# Altium footprint library kernel.PcbLib: 24 footprints (part 1 of 2)
Each footprint in its own frame and in the unit in brackets; x right, y up, seen from the top. Pads: shape width x height; smd on the part's side, far side on the other; paste and mask are expansions set on the pad; w line width, h text height; cw(c..) or ccw(c..) is an arc to the next point about the centre after c.
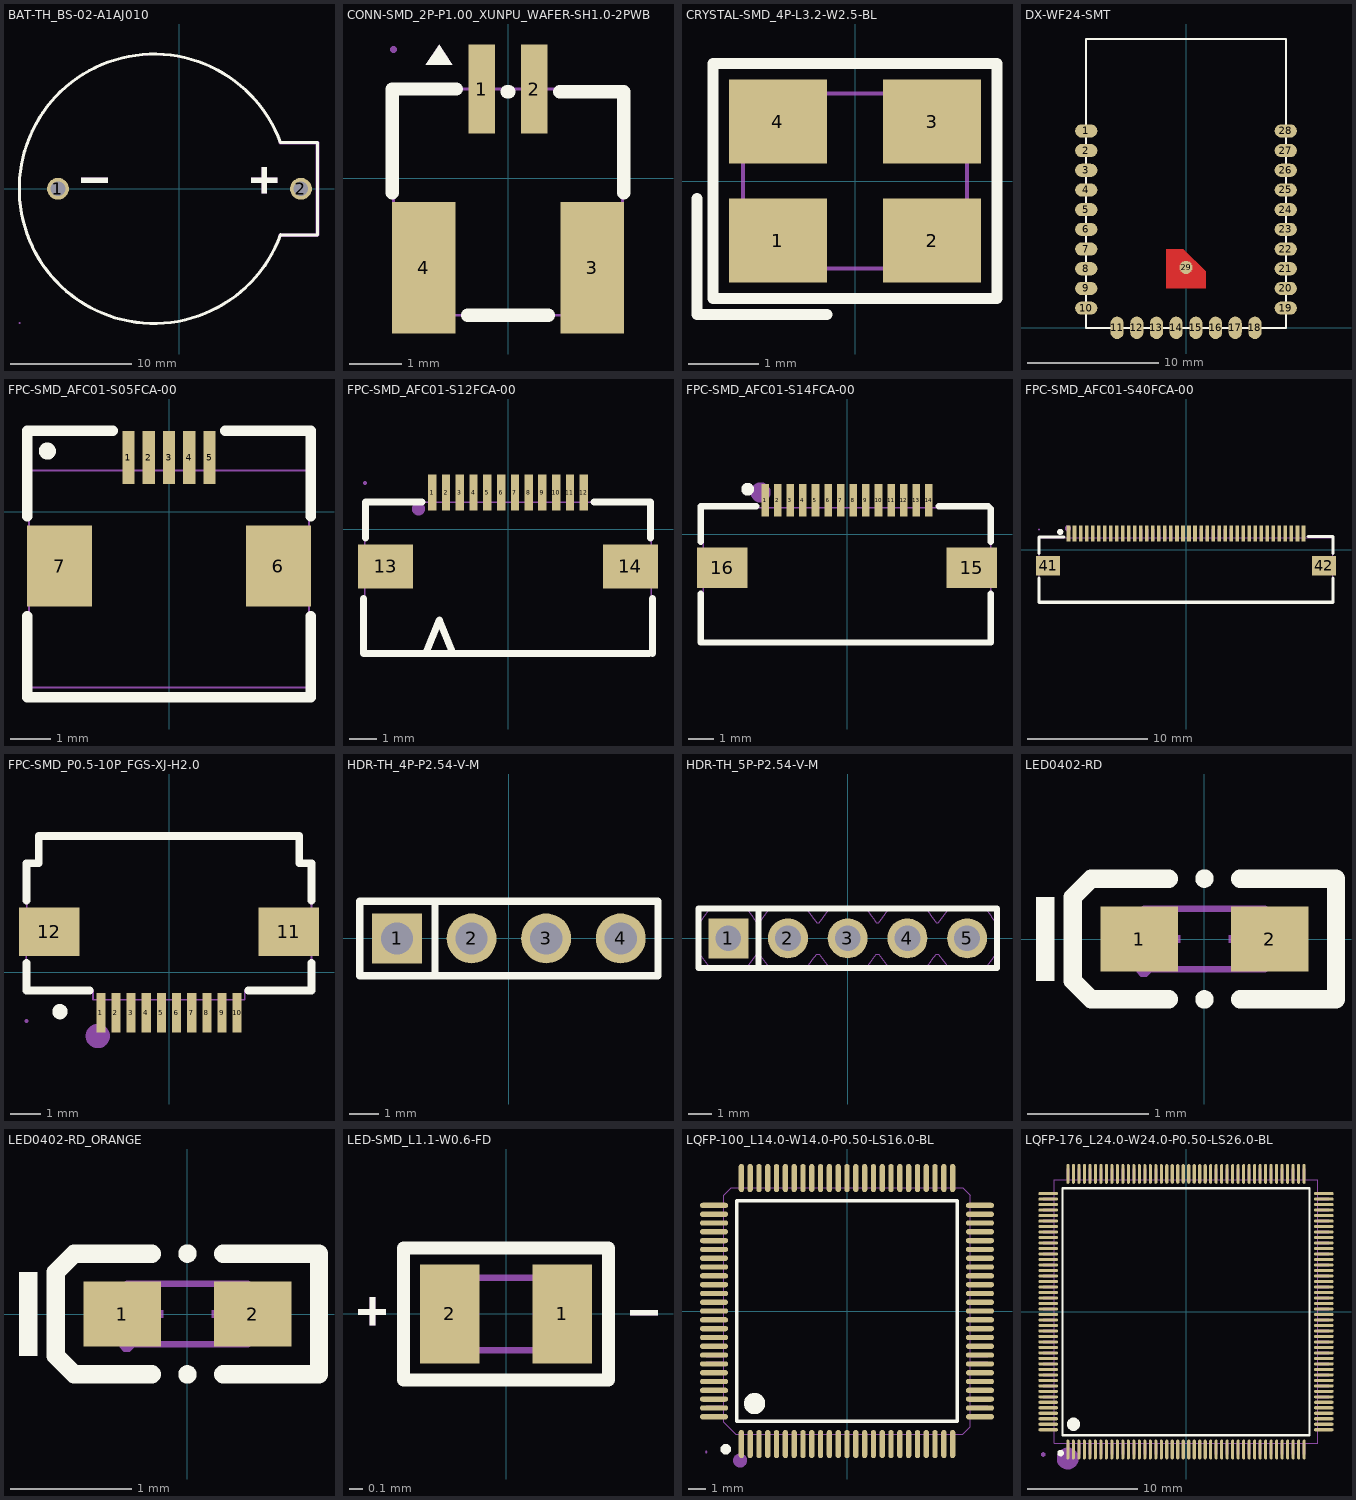
[diagram p0: the footprints below, top view; thin cyan lines are the x and y axes]

## BAT-TH_BS-02-A1AJ010 [mm] "CR2032电池座"
pads (2):
  round 1.8 hole 1.2: 1(-10,0) 2(10,0)
Top Overlay:
  region: -8.069,0.889 -8.069,0.508 -5.91,0.508 -5.91,0.889
  region: 8.06,0.508 8.06,0.889 5.901,0.889 5.901,0.508
  region: 7.171,1.778 6.79,1.778 6.79,-0.381 7.171,-0.381
  lines w0.254: 8.314,-3.81 11.362,-3.81 11.362,3.799 8.318,3.799 ccw(c-2.1,0) 8.325,-3.781
Mechanical 6:
  region: -8.069,0.889 -8.069,0.508 -5.91,0.508 -5.91,0.889
  region: 6.79,-0.381 7.171,-0.381 7.171,1.778 6.79,1.778
  region: 6.79,-0.381 7.171,-0.381 7.171,1.778 6.79,1.778
  region: 5.901,0.889 5.901,0.508 8.06,0.508 8.06,0.889
  region: 8.318,3.926 11.362,3.926 11.387,3.926 11.434,3.907 11.47,3.871 11.489,3.825 11.489,3.799 11.489,-3.81 11.489,-3.835 11.47,-3.882 11.434,-3.918 11.387,-3.937 11.362,-3.937 8.314,-3.937 8.261,-3.937 8.187,-3.863 8.187,-3.757 8.261,-3.683 8.314,-3.683 11.235,-3.683 11.235,3.672 8.318,3.672 8.265,3.672 8.191,3.747 8.191,3.852 8.265,3.926 8.318,3.926
Mechanical 15:
  drawing of 418 lines, arcs and shapes, not listed

## CONN-SMD_2P-P1.00_XUNPU_WAFER-SH1.0-2PWB [mm]
pads (4):
  rect 0.5x1.7 smd paste+0 mask+0.05: 1(-0.5,1.7) 2(0.5,1.7)
  rect 1.2x2.5 smd paste+0 mask+0.05: 3(1.6,-1.7) 4(-1.6,-1.7)
Top Overlay:
  region: -1.31,2.54 -1.564,2.159 -1.056,2.159
  lines w0.254: -2.2,-0.269 -2.2,1.7 -0.98,1.7 ; -0.769,-2.6 0.769,-2.6 ; -0.019,1.651 0.019,1.651 ; 1.019,1.651 0.981,1.651 2.2,1.651 2.2,-0.268 ; 1.981,1.651 2.019,1.651
Mechanical 6:
  region: -1.31,2.54 -1.564,2.159 -1.056,2.159
Mechanical 15:
  region: -1.7,-0.6 -1.5,-0.6 -1.5,-2.6 -1.7,-2.6
  region: 1.5,-0.6 1.7,-0.6 1.7,-2.6 1.5,-2.6
  region: 0.4,2.45 0.6,2.45 0.6,1 0.4,1
  region: -0.6,2.45 -0.4,2.45 -0.4,1 -0.6,1
  region: -2.115,2.45 -2.115,2.425 -2.15,2.39 -2.2,2.39 -2.235,2.425 -2.235,2.45 -2.235,2.475 -2.2,2.51 -2.15,2.51 -2.115,2.475 -2.115,2.45
  lines w0.051: -2.175,-2.6 2.175,-2.6 2.175,1.7 -2.175,1.7 -2.175,-2.6

## CRYSTAL-SMD_4P-L3.2-W2.5-BL [mm] "晶振"
pads (4):
  rect 1.4x1.2 smd: 1(-1.1,-0.85) 2(1.1,-0.85) 3(1.1,0.85) 4(-1.1,0.85)
Top Overlay:
  lines w0.152: -2.257,-0.25 -2.257,-1.907 -0.4,-1.907 ; -2.029,-1.678 2.029,-1.678 2.029,1.679 -2.029,1.679 -2.029,-1.678
Mechanical 6:
  circle w0.254: c-1.27,-0.889 r0.127
Mechanical 15:
  region: -1.5,-0.35 -0.6,-0.35 -0.6,-1.15 -1.5,-1.15
  region: 0.6,-0.35 1.5,-0.35 1.5,-1.15 0.6,-1.15
  region: 0.6,1.15 1.5,1.15 1.5,0.35 0.6,0.35
  region: -1.5,1.15 -0.6,1.15 -0.6,0.35 -1.5,0.35
  region: -1.54,-1.25 -1.54,-1.275 -1.575,-1.31 -1.625,-1.31 -1.66,-1.275 -1.66,-1.25 -1.66,-1.225 -1.625,-1.19 -1.575,-1.19 -1.54,-1.225 -1.54,-1.25
  lines w0.051: -1.6,-1.25 1.6,-1.25 1.6,1.25 -1.6,1.25 -1.6,-1.25

## DX-WF24-SMT [mm]
pads (29):
  oval 1.7x1 smd: 1(-7.6,15) 2(-7.6,13.5) 3(-7.6,12) 4(-7.6,10.5) 5(-7.6,9) 6(-7.6,7.5) 7(-7.6,6) 8(-7.6,4.5) 9(-7.6,3) 10(-7.6,1.5) 19(7.6,1.5) 20(7.6,3) 21(7.6,4.5) 22(7.6,6) 23(7.6,7.5) 24(7.6,9) 25(7.6,10.5) 26(7.6,12) 27(7.6,13.5) 28(7.6,15)
  oval 1x1.7 smd: 11(-5.25,0) 12(-3.75,0) 13(-2.25,0) 14(-0.75,0) 15(0.75,0) 16(2.25,0) 17(3.75,0) 18(5.25,0)
  round 1 smd: 29(0,4.6)
Top Layer:
  region: -1.5,6 -0.2,6 1.5,4.3 1.5,3 -1.5,3
Top Overlay:
  lines w0.15: -7.6,0 -7.6,22 7.6,22 7.6,0 -7.6,0
Top Paste:
  region: -1.5,6 -0.2,6 1.5,4.3 1.5,3 -1.5,3
Top Solder:
  region: -1.5,6 -0.2,6 1.5,4.3 1.5,3 -1.5,3

## FPC-SMD_AFC01-S05FCA-00 [mm]
pads (7):
  rect 0.3x1.3 smd: 1(-1,1.34) 2(-0.5,1.34) 3(0,1.34) 4(0.5,1.34) 5(1,1.34)
  rect 1.6x2 smd: 6(2.7,-1.34) 7(-2.7,-1.34)
Top Overlay:
  circle w0.254: c-3,1.5 r0.083
  lines w0.254: -3.5,-2.571 -3.5,-4 -3.5,-4.572 3.5,-4.572 3.5,-4 3.5,-2.571 ; -3.5,-0.109 -3.5,2 -1.381,2 ; 1.381,2 3.5,2 3.5,-0.109
Mechanical 15:
  region: 2.2,-0.59 3.2,-0.59 3.2,-2.09 2.2,-2.09
  region: -3.2,-0.59 -2.2,-0.59 -2.2,-2.09 -3.2,-2.09
  region: -1.1,1.715 -0.9,1.715 -0.9,0.965 -1.1,0.965
  region: -0.6,1.715 -0.4,1.715 -0.4,0.965 -0.6,0.965
  region: -0.1,1.715 0.1,1.715 0.1,0.965 -0.1,0.965
  region: 0.4,1.715 0.6,1.715 0.6,0.965 0.4,0.965
  region: 0.9,1.715 1.1,1.715 1.1,0.965 0.9,0.965
  region: -3.39,1.715 -3.39,1.69 -3.425,1.655 -3.475,1.655 -3.51,1.69 -3.51,1.715 -3.51,1.74 -3.475,1.775 -3.425,1.775 -3.39,1.74 -3.39,1.715
  lines w0.051: -3.45,-4.335 -3.45,1.015 3.45,1.015 3.45,-4.335 -3.45,-4.335

## FPC-SMD_AFC01-S12FCA-00 [mm]
pads (14):
  rect 0.3x1.3 smd: 1(-2.75,1.34) 2(-2.251,1.34) 3(-1.751,1.34) 4(-1.25,1.34) 5(-0.75,1.34) 6(-0.25,1.34) 7(0.251,1.34) 8(0.75,1.34) 9(1.249,1.34) 10(1.749,1.34) 11(2.25,1.34) 12(2.75,1.34)
  rect 2x1.6 smd: 13(-4.45,-1.34) 14(4.45,-1.34)
Top Overlay:
  lines w0.254: -5.25,-2.5 -5.25,-4.5 5.13,-4.5 ; -5.18,-0.309 -5.18,0.76 ; -5.18,-0.079 -5.18,0.99 -3.132,0.99 ; -2.99,-4.5 -2.49,-3.29 -2,-4.49 ; 3.131,0.99 5.18,0.99 5.18,-0.079 ; 5.18,-0.309 5.18,0.76 ; 5.25,-4.5 5.25,-2.5
Mechanical 6:
  circle w0.24: c-3.25,0.75 r0.12
Mechanical 15:
  region: -5.14,1.69 -5.14,1.665 -5.175,1.63 -5.225,1.63 -5.26,1.665 -5.26,1.69 -5.26,1.715 -5.225,1.75 -5.175,1.75 -5.14,1.715 -5.14,1.69
  region: -5.2,-0.84 -3.7,-0.84 -3.7,-1.84 -5.2,-1.84
  region: 5.2,-1.84 3.7,-1.84 3.7,-0.84 5.2,-0.84
  region: -2.85,0.98 -2.85,1 -2.65,1 -2.65,0.98
  region: -2.85,0.99 -2.85,1.69 -2.65,1.69 -2.65,0.99
  region: -2.351,0.98 -2.351,1 -2.151,1 -2.151,0.98
  region: -2.351,0.99 -2.351,1.69 -2.151,1.69 -2.151,0.99
  region: -1.851,0.98 -1.851,1 -1.651,1 -1.651,0.98
  region: -1.851,0.99 -1.851,1.69 -1.651,1.69 -1.651,0.99
  region: -1.35,0.98 -1.35,1 -1.15,1 -1.15,0.98
  region: -1.35,0.99 -1.35,1.69 -1.15,1.69 -1.15,0.99
  region: -0.85,0.98 -0.85,1 -0.65,1 -0.65,0.98
  region: -0.85,0.99 -0.85,1.69 -0.65,1.69 -0.65,0.99
  region: -0.35,0.98 -0.35,1 -0.15,1 -0.15,0.98
  region: -0.35,0.99 -0.35,1.69 -0.15,1.69 -0.15,0.99
  region: 0.151,0.98 0.151,1 0.351,1 0.351,0.98
  region: 0.151,0.99 0.151,1.69 0.351,1.69 0.351,0.99
  region: 0.65,0.98 0.65,1 0.85,1 0.85,0.98
  region: 0.65,0.99 0.65,1.69 0.85,1.69 0.85,0.99
  region: 1.149,0.98 1.149,1 1.349,1 1.349,0.98
  region: 1.149,0.99 1.149,1.69 1.349,1.69 1.349,0.99
  region: 1.649,0.98 1.649,1 1.849,1 1.849,0.98
  region: 1.649,0.99 1.649,1.69 1.849,1.69 1.849,0.99
  region: 2.15,0.98 2.15,1 2.35,1 2.35,0.98
  region: 2.15,0.99 2.15,1.69 2.35,1.69 2.35,0.99
  region: 2.65,0.98 2.65,1 2.85,1 2.85,0.98
  region: 2.65,0.99 2.65,1.69 2.85,1.69 2.85,0.99
  lines w0.051: -5.2,-4.41 -5.2,0.99 5.2,0.99 5.2,-4.41 -5.2,-4.41

## FPC-SMD_AFC01-S14FCA-00 [mm]
pads (16):
  rect 0.3x1.3 smd: 1(-3.25,1.34) 2(-2.75,1.339) 3(-2.25,1.34) 4(-1.75,1.34) 5(-1.25,1.34) 6(-0.75,1.34) 7(-0.25,1.34) 8(0.25,1.34) 9(0.75,1.34) 10(1.25,1.34) 11(1.75,1.34) 12(2.25,1.34) 13(2.75,1.34) 14(3.25,1.34)
  rect 2x1.6 smd: 15(4.948,-1.34) 16(-4.948,-1.34)
Top Overlay:
  circle w0.254: c-3.937,1.778 r0.127
  lines w0.254: -5.8,-2.371 -5.8,-4.3 5.7,-4.3 5.7,-2.371 ; -5.8,-0.309 -5.8,1.1 -3.6,1.1 ; 3.631,1.1 5.6,1.1 5.7,1 5.7,-0.309
Mechanical 6:
  circle w0.4: c-3.429,1.651 r0.2
Mechanical 15:
  region: 3.15,0.95 3.35,0.95 3.35,1.73 3.15,1.73
  region: 2.65,0.95 2.85,0.95 2.85,1.73 2.65,1.73
  region: 2.15,0.95 2.35,0.95 2.35,1.73 2.15,1.73
  region: 1.65,0.95 1.85,0.95 1.85,1.73 1.65,1.73
  region: 1.15,0.95 1.35,0.95 1.35,1.73 1.15,1.73
  region: 0.65,0.95 0.85,0.95 0.85,1.73 0.65,1.73
  region: 0.15,0.95 0.35,0.95 0.35,1.73 0.15,1.73
  region: -0.35,0.95 -0.15,0.95 -0.15,1.73 -0.35,1.73
  region: -0.85,0.95 -0.65,0.95 -0.65,1.73 -0.85,1.73
  region: -1.35,0.95 -1.15,0.95 -1.15,1.73 -1.35,1.73
  region: -1.85,0.95 -1.65,0.95 -1.65,1.73 -1.85,1.73
  region: -2.35,0.95 -2.15,0.95 -2.15,1.73 -2.35,1.73
  region: -2.85,0.948 -2.65,0.948 -2.65,1.728 -2.85,1.728
  region: -3.35,0.95 -3.15,0.95 -3.15,1.73 -3.35,1.73
  region: 4.196,-0.84 4.196,-1.84 5.696,-1.84 5.696,-0.84
  region: -5.7,-0.84 -5.7,-1.84 -4.2,-1.84 -4.2,-0.84
  region: -5.64,-4.301 -5.64,-4.326 -5.675,-4.361 -5.725,-4.361 -5.76,-4.326 -5.76,-4.301 -5.76,-4.276 -5.725,-4.241 -5.675,-4.241 -5.64,-4.276 -5.64,-4.301
  lines w0.051: -5.702,-4.301 5.698,-4.301 5.698,1.049 -5.702,1.049 -5.702,-4.301

## FPC-SMD_AFC01-S40FCA-00 [mm]
pads (42):
  rect 0.3x1.3 smd: 1(-9.75,1.34) 2(-9.25,1.338) 3(-8.75,1.34) 4(-8.25,1.34) 5(-7.75,1.34) 6(-7.25,1.34) 7(-6.75,1.34) 8(-6.25,1.34) 9(-5.75,1.34) 10(-5.25,1.34) 11(-4.75,1.34) 12(-4.25,1.34) 13(-3.75,1.34) 14(-3.25,1.34) 15(-2.75,1.34) 16(-2.25,1.34) 17(-1.75,1.34) 18(-1.25,1.34) 19(-0.75,1.34) 20(-0.25,1.34) 21(0.25,1.34) 22(0.75,1.34) 23(1.25,1.34) 24(1.75,1.34) 25(2.25,1.34) 26(2.75,1.34) 27(3.25,1.34) 28(3.75,1.34) 29(4.25,1.34) 30(4.75,1.34) 31(5.25,1.34) 32(5.75,1.34) 33(6.25,1.34) 34(6.75,1.34) 35(7.25,1.34) 36(7.75,1.34) 37(8.25,1.34) 38(8.75,1.34) 39(9.25,1.34) 40(9.75,1.34)
  rect 2x1.6 smd: 41(-11.45,-1.34) 42(11.45,-1.34)
Top Overlay:
  circle w0.254: c-10.437,1.478 r0.127
  lines w0.254: -12.207,-2.371 -12.207,-2.671 -12.207,-4.363 12.207,-4.363 12.207,-2.671 12.207,-2.371 ; -12.207,-0.309 -12.207,1.04 ; -12.198,1.04 -10.131,1.04 ; 10.131,1.097 12.207,1.097 12.207,-0.309
Mechanical 6:
  circle w0.254: c-9.799,1.765 r0.127
Mechanical 15:
  drawing of 47 lines, arcs and shapes, not listed

## FPC-SMD_P0.5-10P_FGS-XJ-H2.0 [mm]
pads (12):
  rect 0.3x1.3 smd: 1(-2.25,-1.338) 2(-1.75,-1.338) 3(-1.25,-1.34) 4(-0.75,-1.338) 5(-0.25,-1.34) 6(0.25,-1.338) 7(0.75,-1.338) 8(1.25,-1.338) 9(1.75,-1.338) 10(2.25,-1.34)
  rect 2x1.6 smd: 11(3.95,1.34) 12(-3.95,1.34)
Top Overlay:
  circle w0.3: c-3.6,-1.3 r0.1
  lines w0.254: -4.7,0.309 -4.7,-0.6 -2.615,-0.6 ; -4.7,2.371 -4.7,3.6 -4.3,3.6 -4.3,4.5 4.3,4.5 4.3,3.6 4.7,3.6 4.7,2.371 ; 2.613,-0.6 4.7,-0.6 4.7,0.309
Mechanical 6:
  circle w0.4: c-2.349,-2.106 r0.2
Mechanical 15:
  region: 3.2,0.94 3.2,1.94 4.7,1.94 4.7,0.94
  region: -4.7,0.94 -4.7,1.94 -3.2,1.94 -3.2,0.94
  region: -2.35,-0.852 -2.15,-0.852 -2.15,-1.602 -2.35,-1.602
  region: -1.852,-0.852 -1.652,-0.852 -1.652,-1.602 -1.852,-1.602
  region: -1.35,-0.852 -1.15,-0.852 -1.15,-1.602 -1.35,-1.602
  region: -0.852,-0.852 -0.652,-0.852 -0.652,-1.602 -0.852,-1.602
  region: -0.35,-0.852 -0.15,-0.852 -0.15,-1.602 -0.35,-1.602
  region: 0.148,-0.852 0.348,-0.852 0.348,-1.602 0.148,-1.602
  region: 0.648,-0.852 0.848,-0.852 0.848,-1.602 0.648,-1.602
  region: 1.148,-0.852 1.348,-0.852 1.348,-1.602 1.148,-1.602
  region: 1.648,-0.852 1.848,-0.852 1.848,-1.602 1.648,-1.602
  region: 2.15,-0.852 2.35,-0.852 2.35,-1.602 2.15,-1.602
  region: -4.645,-1.602 -4.645,-1.627 -4.68,-1.662 -4.73,-1.662 -4.765,-1.627 -4.765,-1.602 -4.765,-1.577 -4.73,-1.542 -4.68,-1.542 -4.645,-1.577 -4.645,-1.602
  lines w0.051: -4.705,-0.596 -4.705,-0.197 -4.695,3.561 -4.302,3.561 -4.302,4.503 4.307,4.503 4.307,3.558 4.703,3.558 4.703,-0.601 2.506,-0.601 2.506,-0.902 -2.508,-0.902 -2.508,-0.596 -4.705,-0.596

## HDR-TH_4P-P2.54-V-M [mm]
pads (4):
  rect 1.7x1.7 hole 1.1: 1(-3.81,0)
  round 1.7 hole 1.1: 2(-1.27,0) 3(1.27,0) 4(3.81,0)
Top Overlay:
  lines w0.254: -2.516,-1.27 -2.516,1.27 ; -2.516,1.27 -5.08,1.27 -5.08,-1.27 5.08,-1.27 5.08,1.27 -2.516,1.27
Mechanical 15:
  region: 3.49,0.32 4.13,0.32 4.13,-0.32 3.49,-0.32
  region: 0.95,0.32 1.59,0.32 1.59,-0.32 0.95,-0.32
  region: -1.59,0.32 -0.95,0.32 -0.95,-0.32 -1.59,-0.32
  region: -4.13,0.32 -3.49,0.32 -3.49,-0.32 -4.13,-0.32
  region: -5.02,-1.25 -5.02,-1.275 -5.055,-1.31 -5.105,-1.31 -5.14,-1.275 -5.14,-1.25 -5.14,-1.225 -5.105,-1.19 -5.055,-1.19 -5.02,-1.225 -5.02,-1.25
  lines w0.051: -5.08,-1.25 5.08,-1.25 5.08,1.25 -5.08,1.25 -5.08,-1.25

## HDR-TH_5P-P2.54-V-M [mm]
pads (5):
  rect 1.7x1.7 hole 1.1 paste+0 mask+0.051: 1(-5.08,0)
  round 1.7 hole 1.1 paste+0 mask+0.051: 2(-2.54,0) 3(0,0) 4(2.54,0) 5(5.08,0)
Top Overlay:
  lines w0.254: -3.786,-1.27 -3.786,1.27 ; -6.35,-1.27 6.35,-1.27 6.35,1.27 -6.35,1.27 -6.35,-1.27
Mechanical 15:
  region: -6.29,-1.271 -6.29,-1.246 -6.325,-1.211 -6.375,-1.211 -6.41,-1.246 -6.41,-1.271 -6.41,-1.296 -6.375,-1.331 -6.325,-1.331 -6.29,-1.296 -6.29,-1.271
  region: 4.76,0.32 5.4,0.32 5.4,-0.32 4.76,-0.32
  region: 2.22,0.32 2.86,0.32 2.86,-0.32 2.22,-0.32
  region: -0.32,0.32 0.32,0.32 0.32,-0.32 -0.32,-0.32
  region: -2.86,0.32 -2.22,0.32 -2.22,-0.32 -2.86,-0.32
  region: -5.4,0.32 -4.76,0.32 -4.76,-0.32 -5.4,-0.32
  lines w0.051: -6.35,-0.67 -6.35,0.67 -6.299,0.67 -6.028,1.032 -5.85,1.27 -4.31,1.27 -4.149,1.059 -4.048,0.925 -4.017,0.884 -3.86,0.67 -3.76,0.67 -3.31,1.27 -1.77,1.27 -1.631,1.088 -1.546,0.976 -1.459,0.859 -1.436,0.827 -1.417,0.801 -1.32,0.67 -1.22,0.67 -0.77,1.27 0.77,1.27 0.867,1.143 1.01,0.955 1.108,0.822 1.136,0.783 1.22,0.67 1.32,0.67 1.77,1.27 3.31,1.27 3.458,1.076 3.533,0.979 3.76,0.67 3.86,0.67 4.311,1.27 5.85,1.27 6.079,0.97 6.112,0.925 6.3,0.67 6.35,0.67 6.35,-0.67 6.3,-0.67 6.075,-0.976 5.85,-1.27 4.31,-1.27 3.86,-0.67 3.759,-0.67 3.581,-0.913 3.545,-0.963 3.51,-1.009 3.31,-1.271 1.77,-1.27 1.32,-0.67 1.22,-0.67 1.02,-0.942 0.992,-0.98 0.77,-1.27 -0.77,-1.27 -1.22,-0.67 -1.32,-0.67 -1.503,-0.919 -1.542,-0.972 -1.77,-1.27 -3.31,-1.27 -3.76,-0.67 -3.86,-0.67 -4.077,-0.965 -4.31,-1.27 -5.85,-1.27 -6.3,-0.67 -6.35,-0.67 -6.35,-0.67 ; -6.35,-0.67 -6.35,-0.67

## LED0402-RD [mm] "LED红"
pads (2):
  rect 0.636x0.54 smd paste-100 mask+0.051: 1(-0.538,0) 2(0.538,0)
Top Overlay:
  circle w0.076: c0,-0.499 r0.038
  circle w0.076: c0,0.499 r0.038
  region: -1.237,-0.346 -1.237,0.346 -1.39,0.346 -1.39,-0.346
  lines w0.152: -0.296,-0.499 -0.933,-0.499 -1.085,-0.346 -1.085,0.346 -0.933,0.499 -0.296,0.499 ; 0.296,-0.499 1.085,-0.499 1.085,0.499 0.296,0.499
Top Paste:
  region: 0.198,-0.23 0.198,0.23 0.238,0.27 0.816,0.27 0.856,0.23 0.856,-0.23 0.816,-0.27 0.238,-0.27
  region: -0.198,-0.23 -0.198,0.23 -0.238,0.27 -0.816,0.27 -0.856,0.23 -0.856,-0.23 -0.816,-0.27 -0.238,-0.27
Mechanical 6:
  region: -0.44,-0.03 -0.44,0.03 -0.2,0.03 -0.2,-0.03
  region: 0.44,-0.03 0.44,0.03 0.2,0.03 0.2,-0.03
  region: 0.35,-0.2 0.35,0.2 0.29,0.2 0.29,-0.2
Mechanical 15:
  region: -0.44,-0.25 -0.44,-0.275 -0.475,-0.31 -0.525,-0.31 -0.56,-0.275 -0.56,-0.25 -0.56,-0.225 -0.525,-0.19 -0.475,-0.19 -0.44,-0.225 -0.44,-0.25
  region: -0.5,-0.25 -0.5,0.25 -0.3,0.25 -0.3,-0.25
  region: 0.5,-0.25 0.5,0.25 0.3,0.25 0.3,-0.25
  lines w0.051: -0.5,-0.25 -0.5,0.25 0.5,0.25 0.5,-0.25 -0.5,-0.25

## LED0402-RD_ORANGE [mm] "LED橙色"
pads (2):
  rect 0.636x0.54 smd paste-100 mask+0.051: 1(-0.538,0) 2(0.538,0)
Top Overlay:
  circle w0.076: c0,-0.499 r0.038
  circle w0.076: c0,0.499 r0.038
  region: -1.237,-0.346 -1.237,0.346 -1.39,0.346 -1.39,-0.346
  lines w0.152: -0.296,-0.499 -0.933,-0.499 -1.085,-0.346 -1.085,0.346 -0.933,0.499 -0.296,0.499 ; 0.296,-0.499 1.085,-0.499 1.085,0.499 0.296,0.499
Top Paste:
  region: 0.198,-0.23 0.198,0.23 0.238,0.27 0.816,0.27 0.856,0.23 0.856,-0.23 0.816,-0.27 0.238,-0.27
  region: -0.198,-0.23 -0.198,0.23 -0.238,0.27 -0.816,0.27 -0.856,0.23 -0.856,-0.23 -0.816,-0.27 -0.238,-0.27
Mechanical 6:
  region: -0.44,-0.03 -0.44,0.03 -0.2,0.03 -0.2,-0.03
  region: 0.44,-0.03 0.44,0.03 0.2,0.03 0.2,-0.03
  region: 0.35,-0.2 0.35,0.2 0.29,0.2 0.29,-0.2
Mechanical 15:
  region: -0.5,-0.25 -0.5,0.25 -0.3,0.25 -0.3,-0.25
  region: 0.5,-0.25 0.5,0.25 0.3,0.25 0.3,-0.25
  region: -0.44,-0.25 -0.44,-0.275 -0.475,-0.31 -0.525,-0.31 -0.56,-0.275 -0.56,-0.25 -0.56,-0.225 -0.525,-0.19 -0.475,-0.19 -0.44,-0.225 -0.44,-0.25
  lines w0.051: -0.5,-0.25 0.5,-0.25 0.5,0.25 -0.5,0.25 -0.5,-0.25

## LED-SMD_L1.1-W0.6-FD [mm] "LED黄绿"
pads (2):
  rect 0.45x0.75 smd: 1(0.425,0) 2(-0.425,0)
Top Overlay:
  region: -1.12,0.035 -0.92,0.035 -0.91,0.035 -0.91,0.025 -0.91,0.005 -0.91,-0.005 -0.92,-0.005 -1.12,-0.005
  region: -1.03,-0.085 -1.03,0.115 -1.03,0.125 -1.02,0.125 -1,0.125 -0.99,0.125 -0.99,0.115 -0.99,-0.085
  region: 0.94,0.03 1.14,0.03 1.15,0.03 1.15,0.02 1.15,0 1.15,-0.01 1.14,-0.01 0.94,-0.01
  lines w0.1: -0.775,-0.5 0.775,-0.5 0.775,0.5 -0.775,0.5 -0.775,-0.5
Mechanical 6:
  region: -1.12,0.035 -0.92,0.035 -0.91,0.035 -0.91,0.025 -0.91,0.005 -0.91,-0.005 -0.92,-0.005 -1.12,-0.005
  region: -1.03,-0.085 -1.03,0.115 -1.03,0.125 -1.02,0.125 -1,0.125 -0.99,0.125 -0.99,0.115 -0.99,-0.085
  region: 0.94,0.03 1.14,0.03 1.15,0.03 1.15,0.02 1.15,0 1.15,-0.01 1.14,-0.01 0.94,-0.01
Mechanical 15:
  region: 0.61,0.275 0.61,0.25 0.575,0.215 0.525,0.215 0.49,0.25 0.49,0.275 0.49,0.3 0.525,0.335 0.575,0.335 0.61,0.3 0.61,0.275
  region: 0.55,-0.275 0.25,-0.275 0.25,0.275 0.55,0.275
  region: -0.25,-0.275 -0.55,-0.275 -0.55,0.275 -0.25,0.275
  lines w0.051: -0.55,-0.275 0.55,-0.275 0.55,0.275 -0.55,0.275 -0.55,-0.275

## LQFP-100_L14.0-W14.0-P0.50-LS16.0-BL [mm] "STM32F407Vx"
pads (100):
  oval 0.3x1.6 smd: 1(-6,-7.55) 2(-5.5,-7.55) 3(-5,-7.55) 4(-4.5,-7.55) 5(-4,-7.55) 6(-3.5,-7.55) 7(-3,-7.55) 8(-2.5,-7.55) 9(-2,-7.55) 10(-1.5,-7.55) 11(-1,-7.55) 12(-0.5,-7.55) 13(0,-7.55) 14(0.5,-7.55) 15(1,-7.55) 16(1.5,-7.55) 17(2,-7.55) 18(2.5,-7.55) 19(3,-7.55) 20(3.5,-7.55) 21(4,-7.55) 22(4.5,-7.55) 23(5,-7.55) 24(5.5,-7.55) 25(6,-7.55) 51(6,7.55) 52(5.5,7.55) 53(5,7.55) 54(4.5,7.55) 55(4,7.55) 56(3.5,7.55) 57(3,7.55) 58(2.5,7.55) 59(2,7.55) 60(1.5,7.55) 61(1,7.55) 62(0.5,7.55) 63(0,7.55) 64(-0.5,7.55) 65(-1,7.55) 66(-1.5,7.55) 67(-2,7.55) 68(-2.5,7.55) 69(-3,7.55) 70(-3.5,7.55) 71(-4,7.55) 72(-4.5,7.55) 73(-5,7.55) 74(-5.5,7.55) 75(-6,7.55)
  oval 1.6x0.3 smd: 26(7.55,-6) 27(7.55,-5.5) 28(7.55,-5) 29(7.55,-4.5) 30(7.55,-4) 31(7.55,-3.5) 32(7.55,-3) 33(7.55,-2.5) 34(7.55,-2) 35(7.55,-1.5) 36(7.55,-1) 37(7.55,-0.5) 38(7.55,0) 39(7.55,0.5) 40(7.55,1) 41(7.55,1.5) 42(7.55,2) 43(7.55,2.5) 44(7.55,3) 45(7.55,3.5) 46(7.55,4) 47(7.55,4.5) 48(7.55,5) 49(7.55,5.5) 50(7.55,6) 76(-7.55,6) 77(-7.55,5.5) 78(-7.55,5) 79(-7.55,4.5) 80(-7.55,4) 81(-7.55,3.5) 82(-7.55,3) 83(-7.55,2.5) 84(-7.55,2) 85(-7.55,1.5) 86(-7.55,1) 87(-7.55,0.5) 88(-7.55,0) 89(-7.55,-0.5) 90(-7.55,-1) 91(-7.55,-1.5) 92(-7.55,-2) 93(-7.55,-2.5) 94(-7.55,-3) 95(-7.55,-3.5) 96(-7.55,-4) 97(-7.55,-4.5) 98(-7.55,-5) 99(-7.55,-5.5) 100(-7.55,-6)
Top Overlay:
  lines w0.2: -6.25,-6.25 6.25,-6.25 6.25,6.25 -6.25,6.25 -6.25,-6.25
  lines w0.3: -6.883,-7.696 ccw(c-6.882,-7.846) -6.882,-7.996 ccw(c-6.882,-7.846) -6.881,-7.696
  lines w0.6: -5.25,-4.95 ccw(c-5.248,-5.25) -5.248,-5.55 ccw(c-5.248,-5.25) -5.245,-4.95
Mechanical 6:
  circle w0.4: c-6.071,-8.484 r0.2
Mechanical 15:
  drawing of 209 lines, arcs and shapes, not listed

## LQFP-176_L24.0-W24.0-P0.50-LS26.0-BL [mm] "STM32F429IGT6"
pads (176):
  oval 0.28x1.8 smd: 1(-10.75,-12.55) 2(-10.25,-12.55) 3(-9.75,-12.55) 4(-9.25,-12.55) 5(-8.75,-12.55) 6(-8.25,-12.55) 7(-7.75,-12.55) 8(-7.25,-12.55) 9(-6.75,-12.55) 10(-6.25,-12.55) 11(-5.75,-12.55) 12(-5.25,-12.55) 13(-4.75,-12.55) 14(-4.25,-12.55) 15(-3.75,-12.55) 16(-3.25,-12.55) 17(-2.75,-12.55) 18(-2.25,-12.55) 19(-1.75,-12.55) 20(-1.25,-12.55) 21(-0.75,-12.55) 22(-0.25,-12.55) 23(0.25,-12.55) 24(0.75,-12.55) 25(1.25,-12.55) 26(1.75,-12.55) 27(2.25,-12.55) 28(2.75,-12.55) 29(3.25,-12.55) 30(3.75,-12.55) 31(4.25,-12.55) 32(4.75,-12.55) 33(5.25,-12.55) 34(5.75,-12.55) 35(6.25,-12.55) 36(6.75,-12.55) 37(7.25,-12.55) 38(7.75,-12.55) 39(8.25,-12.55) 40(8.75,-12.55) 41(9.25,-12.55) 42(9.75,-12.55) 43(10.25,-12.55) 44(10.75,-12.55) 89(10.75,12.55) 90(10.25,12.55) 91(9.75,12.55) 92(9.25,12.55) 93(8.75,12.55) 94(8.25,12.55) 95(7.75,12.55) 96(7.25,12.55) 97(6.75,12.55) 98(6.25,12.55) 99(5.75,12.55) 100(5.25,12.55) 101(4.75,12.55) 102(4.25,12.55) 103(3.75,12.55) 104(3.25,12.55) 105(2.75,12.55) 106(2.25,12.55) 107(1.75,12.55) 108(1.25,12.55) 109(0.75,12.55) 110(0.25,12.55) 111(-0.25,12.55) 112(-0.75,12.55) 113(-1.25,12.55) 114(-1.75,12.55) 115(-2.25,12.55) 116(-2.75,12.55) 117(-3.25,12.55) 118(-3.75,12.55) 119(-4.25,12.55) 120(-4.75,12.55) 121(-5.25,12.55) 122(-5.75,12.55) 123(-6.25,12.55) 124(-6.75,12.55) 125(-7.25,12.55) 126(-7.75,12.55) 127(-8.25,12.55) 128(-8.75,12.55) 129(-9.25,12.55) 130(-9.75,12.55) 131(-10.25,12.55) 132(-10.75,12.55)
  oval 1.8x0.28 smd: 45(12.55,-10.75) 46(12.55,-10.25) 47(12.55,-9.75) 48(12.55,-9.25) 49(12.55,-8.75) 50(12.55,-8.25) 51(12.55,-7.75) 52(12.55,-7.25) 53(12.55,-6.75) 54(12.55,-6.25) 55(12.55,-5.75) 56(12.55,-5.25) 57(12.55,-4.75) 58(12.55,-4.25) 59(12.55,-3.75) 60(12.55,-3.25) 61(12.55,-2.75) 62(12.55,-2.25) 63(12.55,-1.75) 64(12.55,-1.25) 65(12.55,-0.75) 66(12.55,-0.25) 67(12.55,0.25) 68(12.55,0.75) 69(12.55,1.25) 70(12.55,1.75) 71(12.55,2.25) 72(12.55,2.75) 73(12.55,3.25) 74(12.55,3.75) 75(12.55,4.25) 76(12.55,4.75) 77(12.55,5.25) 78(12.55,5.75) 79(12.55,6.25) 80(12.55,6.75) 81(12.55,7.25) 82(12.55,7.75) 83(12.55,8.25) 84(12.55,8.75) 85(12.55,9.25) 86(12.55,9.75) 87(12.55,10.25) 88(12.55,10.75) 133(-12.55,10.75) 134(-12.55,10.25) 135(-12.55,9.75) 136(-12.55,9.25) 137(-12.55,8.75) 138(-12.55,8.25) 139(-12.55,7.75) 140(-12.55,7.25) 141(-12.55,6.75) 142(-12.55,6.25) 143(-12.55,5.75) 144(-12.55,5.25) 145(-12.55,4.75) 146(-12.55,4.25) 147(-12.55,3.75) 148(-12.55,3.25) 149(-12.55,2.75) 150(-12.55,2.25) 151(-12.55,1.75) 152(-12.55,1.25) 153(-12.55,0.75) 154(-12.55,0.25) 155(-12.55,-0.25) 156(-12.55,-0.75) 157(-12.55,-1.25) 158(-12.55,-1.75) 159(-12.55,-2.25) 160(-12.55,-2.75) 161(-12.55,-3.25) 162(-12.55,-3.75) 163(-12.55,-4.25) 164(-12.55,-4.75) 165(-12.55,-5.25) 166(-12.55,-5.75) 167(-12.55,-6.25) 168(-12.55,-6.75) 169(-12.55,-7.25) 170(-12.55,-7.75) 171(-12.55,-8.25) 172(-12.55,-8.75) 173(-12.55,-9.25) 174(-12.55,-9.75) 175(-12.55,-10.25) 176(-12.55,-10.75)
Top Overlay:
  lines w0.2: -11.25,-11.25 -11.25,11.25 11.25,11.25 11.25,-11.25 -11.25,-11.25
  lines w0.3: -11.425,-12.725 ccw(c-11.424,-12.875) -11.424,-13.025 ccw(c-11.424,-12.875) -11.422,-12.725
  lines w0.6: -10.249,-9.949 ccw(c-10.246,-10.249) -10.246,-10.549 ccw(c-10.246,-10.249) -10.244,-9.949
Mechanical 6:
  circle w1: c-10.77,-13.37 r0.5
Mechanical 15:
  drawing of 357 lines, arcs and shapes, not listed
3D body: height 0.25, standoff 0, extent 12.827,-11.811 12.827,-11.811
3D body: height 0.25, standoff 0, extent -10.033,10.16 -10.033,10.16
3D body "Сборка _ MK-LQFP176 24x24.stp": height 1.38, standoff -0.02, extent -13.045,-13.029 12.97,12.987